# Altium footprint library MOTION_POSITION-ADXL345BCCZ-RL_14P-5.0X3.0MM_.PcbLib: 1 footprints
Each footprint in its own frame and in the unit in brackets; x right, y up, seen from the top. Pads: shape width x height; smd on the part's side, far side on the other; paste and mask are expansions set on the pad; w line width, h text height; cw(c..) or ccw(c..) is an arc to the next point about the centre after c.
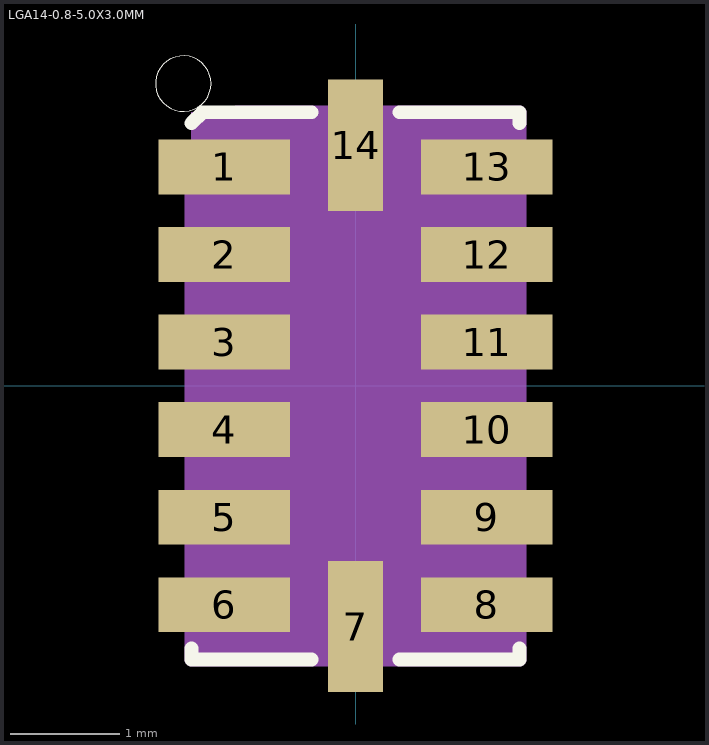
[diagram p0: the footprint, top view; thin cyan lines are the x and y axes]

## LGA14-0.8-5.0X3.0MM [mm]
pads (14):
  rect 1.2x0.5 smd: 1(-1.2,2) 2(-1.2,1.2) 3(-1.2,0.4) 4(-1.2,-0.4) 5(-1.2,-1.2) 6(-1.2,-2) 8(1.2,-2) 9(1.2,-1.2) 10(1.2,-0.4) 11(1.2,0.4) 12(1.2,1.2) 13(1.2,2)
  rect 0.5x1.2 smd: 7(0,-2.2) 14(0,2.2)
Top Overlay:
  circle w0: c-1.575,2.762 r0.254
  lines w0.127: -1.5,-2.4 -1.5,-2.5 -0.4,-2.5 ; -1.5,2.4 -1.4,2.5 -0.4,2.5 ; 0.4,-2.5 1.5,-2.5 1.5,-2.4 ; 0.4,2.5 1.5,2.5 1.5,2.4
Mechanical 1:
  lines w0.127: -1.5,-2.5 1.5,-2.5 1.5,2.5 -1.084,2.5 -1.5,2.084 -1.5,-2.5
Mechanical 4:
  region: -1.504,2.5 1.5,2.5 1.5,-2.506 -1.504,-2.506